# Altium footprint library capstone.PcbLib: 2 footprints
Each footprint in its own frame and in the unit in brackets; x right, y up, seen from the top. Pads: shape width x height; smd on the part's side, far side on the other; paste and mask are expansions set on the pad; w line width, h text height; cw(c..) or ccw(c..) is an arc to the next point about the centre after c.
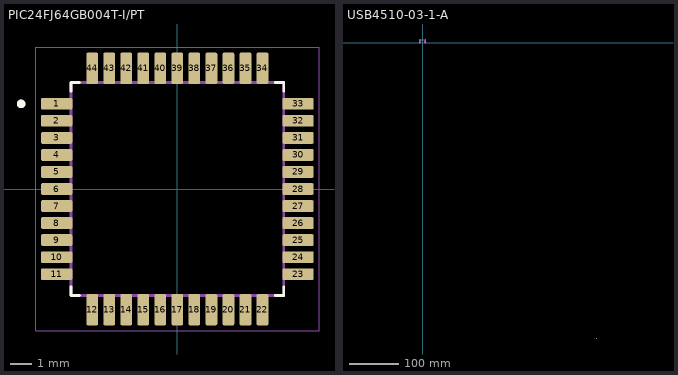
[diagram p0: the footprints below, top view; thin cyan lines are the x and y axes]

## PIC24FJ64GB004T-I/PT [mm]
pads (44):
  rrect25% 1.47x0.55 smd: 1(-5.67,4) 2(-5.67,3.2) 3(-5.67,2.4) 4(-5.67,1.6) 5(-5.67,0.8) 6(-5.67,0) 7(-5.67,-0.8) 8(-5.67,-1.6) 9(-5.67,-2.4) 10(-5.67,-3.2) 11(-5.67,-4) 23(5.67,-4) 24(5.67,-3.2) 25(5.67,-2.4) 26(5.67,-1.6) 27(5.67,-0.8) 28(5.67,0) 29(5.67,0.8) 30(5.67,1.6) 31(5.67,2.4) 32(5.67,3.2) 33(5.67,4)
  rrect25% 0.55x1.47 smd: 12(-4,-5.67) 13(-3.2,-5.67) 14(-2.4,-5.67) 15(-1.6,-5.67) 16(-0.8,-5.67) 17(0,-5.67) 18(0.8,-5.67) 19(1.6,-5.67) 20(2.4,-5.67) 21(3.2,-5.67) 22(4,-5.67) 34(4,5.67) 35(3.2,5.67) 36(2.4,5.67) 37(1.6,5.67) 38(0.8,5.67) 39(0,5.67) 40(-0.8,5.67) 41(-1.6,5.67) 42(-2.4,5.67) 43(-3.2,5.67) 44(-4,5.67)
Top Overlay:
  circle w0.2: c-7.34,4 r0.1
  lines w0.127: -5,-4.595 -5,-5 -4.595,-5 ; -5,4.595 -5,5 -4.595,5 ; 4.595,-5 5,-5 5,-4.595 ; 4.595,5 5,5 5,4.595
Mechanical 13:
  circle w0.2: c-7.34,4 r0.1
  lines w0.127: -5,-5 -5,5 5,5 5,-5 -5,-5
Mechanical 15:
  lines w0.05: -6.655,-6.655 -6.655,6.655 6.655,6.655 6.655,-6.655 -6.655,-6.655
3D body "step_temp.STEP": height 1.2, standoff 0, extent -6,-6 6,6

## USB4510-03-1-A [mm]
pads (17):
  rrect25% 0.6x1.3 smd: A1-B12(-3.2,6.85) A4-B9(-2.4,6.85) B1-A12(3.2,6.85) B4-A9(2.4,6.85)
  rrect50% 1.524x1.524 hole 0.762: A1-B12(348.996,-594.36)
  rrect25% 0.3x1.3 smd: A5(-1.25,6.85) A6(-0.25,6.85) A7(0.25,6.85) A8(1.25,6.85) B5(1.75,6.85) B6(0.75,6.85) B7(-0.75,6.85) B8(-1.75,6.85)
  rrect100% 1.1x2.2 hole 0.7 slot 1.8 at 90 deg: SHELL(-5.62,1.6) SHELL(5.62,1.6)
  rrect100% 1.1x1.8 hole 0.7 slot 1.4 at 90 deg: SHELL(-5.62,5.6) SHELL(5.62,5.6)
Mechanical 1:
  lines w0.025: -7,0 -4.62,0 -4.62,6.1 4.62,6.1 4.62,0 7,0